# Altium footprint library OLED.PcbLib: 1 footprints
Each footprint in its own frame and in the unit in brackets; x right, y up, seen from the top. Pads: shape width x height; smd on the part's side, far side on the other; paste and mask are expansions set on the pad; w line width, h text height; cw(c..) or ccw(c..) is an arc to the next point about the centre after c.
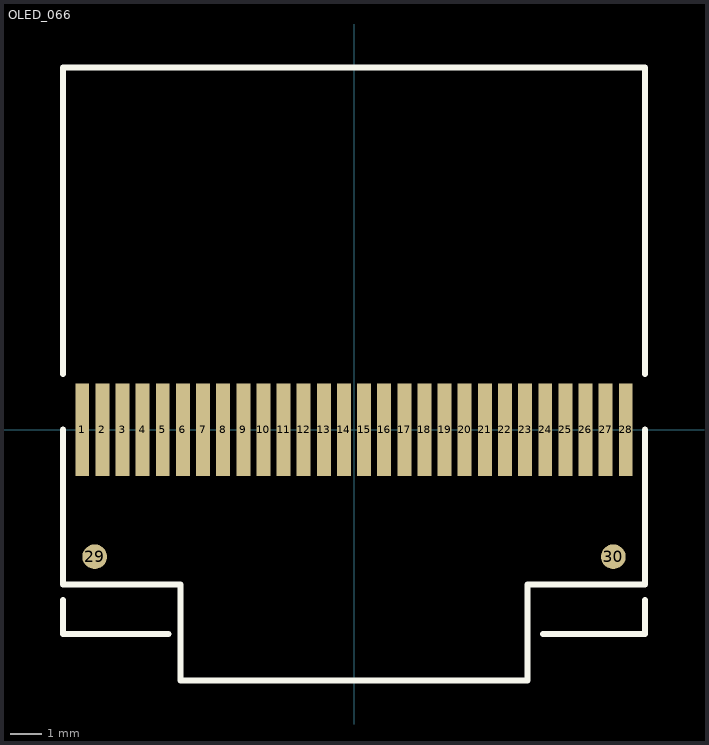
[diagram p0: the footprint, top view; thin cyan lines are the x and y axes]

## OLED_066 [mm]
pads (30):
  rect 0.45x3 smd: 1(-8.775,0) 2(-8.125,0) 3(-7.475,0) 4(-6.825,0) 5(-6.175,0) 6(-5.525,0) 7(-4.875,0) 8(-4.225,0) 9(-3.575,0) 10(-2.925,0) 11(-2.275,0) 12(-1.625,0) 13(-0.975,0) 14(-0.325,0) 15(0.325,0) 16(0.975,0) 17(1.625,0) 18(2.275,0) 19(2.925,0) 20(3.575,0) 21(4.225,0) 22(4.875,0) 23(5.525,0) 24(6.175,0) 25(6.825,0) 26(7.475,0) 27(8.125,0) 28(8.775,0)
  round 0.8 smd: 29(-8.375,-4.1) 30(8.375,-4.1)
Top Overlay:
  lines w0.2: -9.4,-5.5 -9.4,-6.6 -6,-6.6 ; -9.4,0 -9.4,-5 -5.6,-5 -5.6,-8.1 5.6,-8.1 5.6,-5 9.4,-5 9.4,0 ; -9.4,1.8 -9.4,11.7 9.4,11.7 9.4,1.8 ; 6.1,-6.6 9.4,-6.6 9.4,-5.5
3D body "oled066.stp": height 2.2, standoff 0.05, extent -9.275,-8.1 9.275,11.6